# EAGLE library part SAA1099 (library SAA1099)
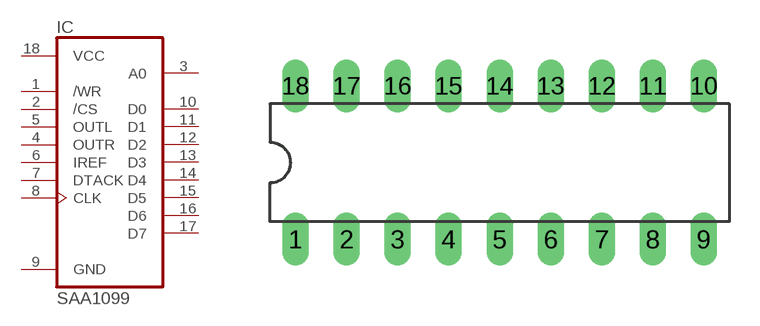
[diagram p0: symbol with the pads of DIL18; footprint DIL18]

Designator prefix IC

## SAA1099  [DIL18]
1  /WR  in
2  /CS  in
3  A0  in
4  OUTR  out
5  OUTL  out
6  IREF  in
7  DTACK  out
8  CLK  in
9  GND  pwr
10  D0
11  D1
12  D2
13  D3
14  D4
15  D5
16  D6
17  D7
18  VCC  sup

## Footprint DIL18 (pad centres in mm)
Dual In Line Package
drill 0.813 long: 1 -10.16,-3.81; 2 -7.62,-3.81; 3 -5.08,-3.81; 4 -2.54,-3.81; 5 0,-3.81; 6 2.54,-3.81; 7 5.08,-3.81; 8 7.62,-3.81; 9 10.16,-3.81; 10 10.16,3.81; 11 7.62,3.81; 12 5.08,3.81; 13 2.54,3.81; 14 0,3.81; 15 -2.54,3.81; 16 -5.08,3.81; 17 -7.62,3.81; 18 -10.16,3.81